# Altium integrated library NSC ADC.IntLib: 208 symbols (part 6 of 7)
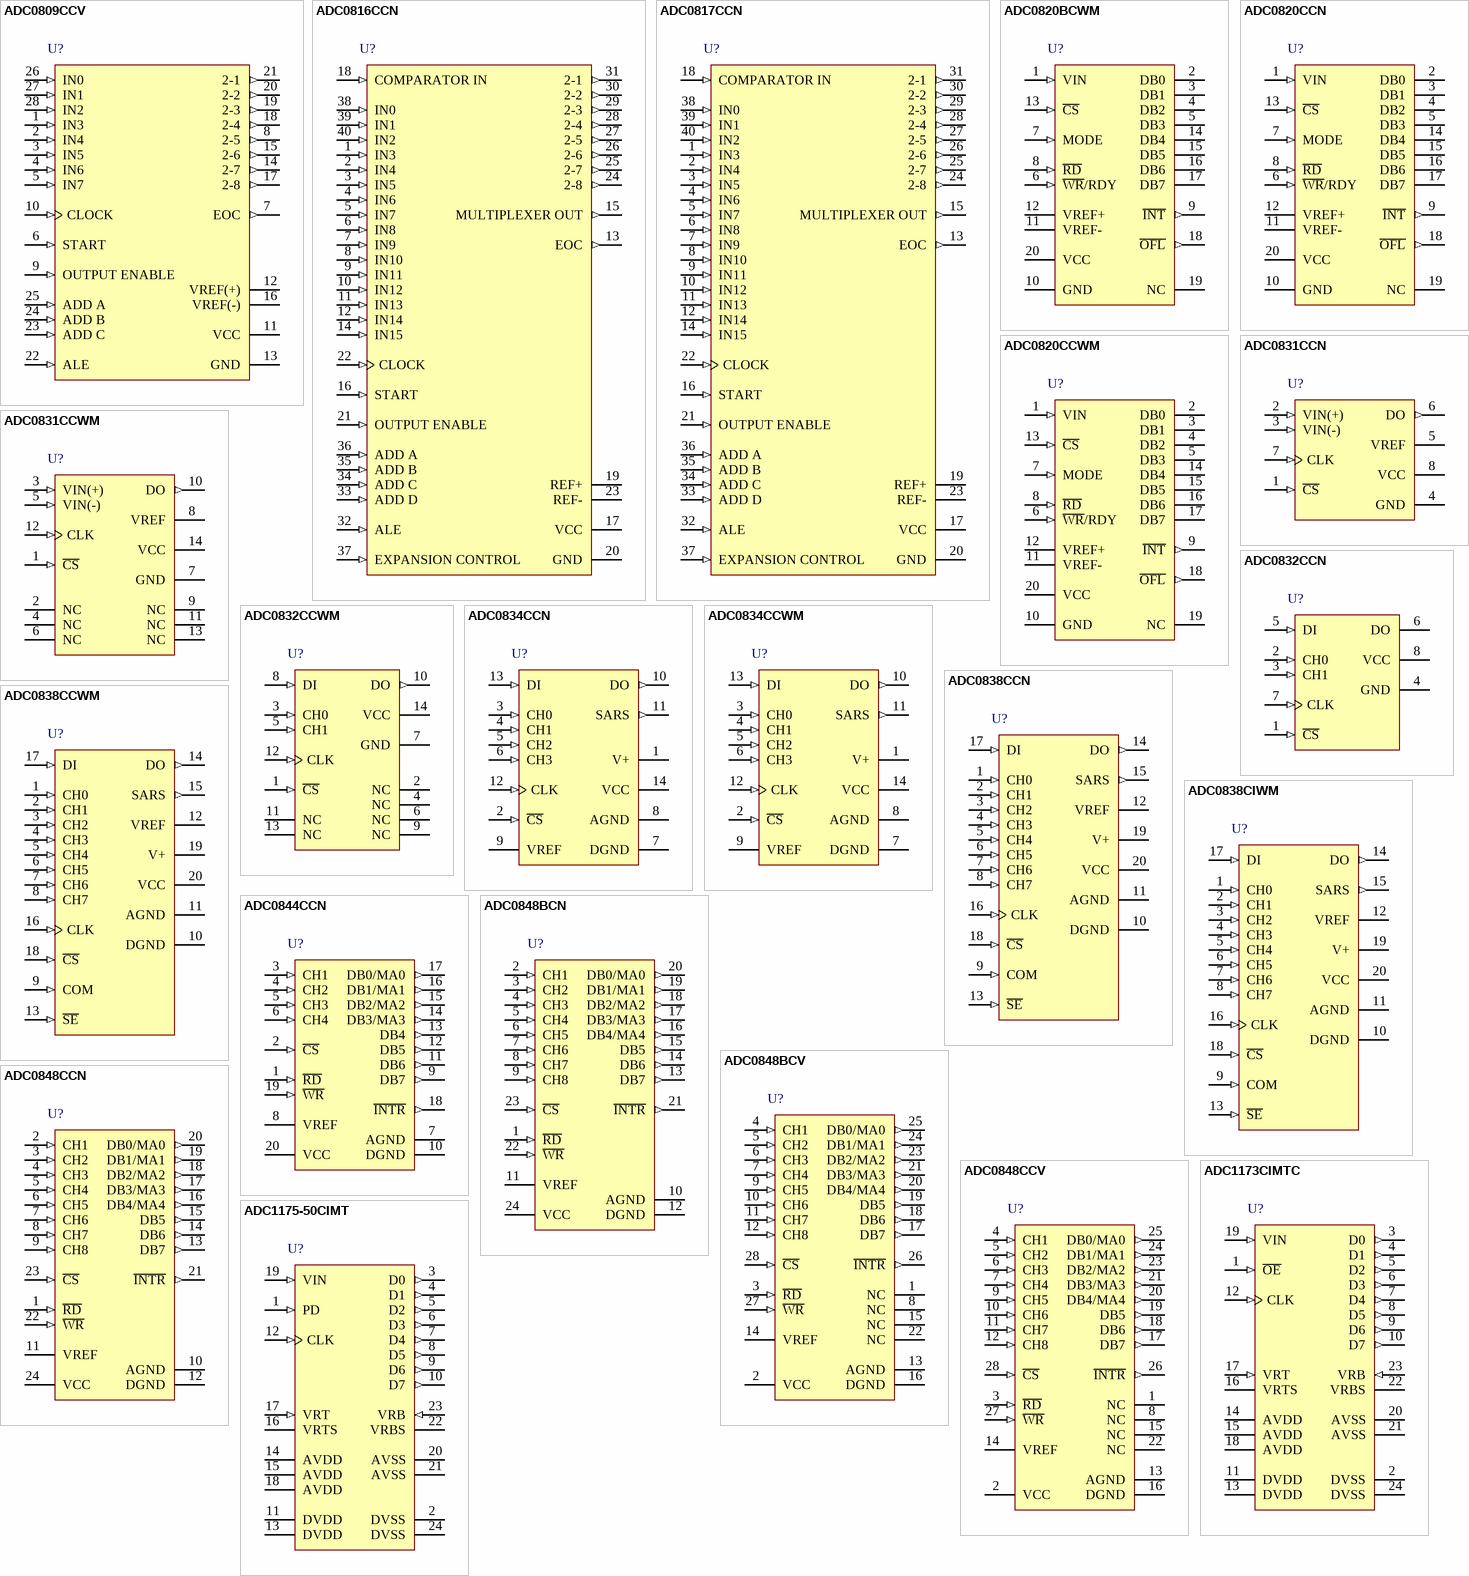
[diagram p22: symbols ADC0809CCV to ADC1175-50CIMT]

## ADC0848CCV
designator U?
8-Bit Microprocessor Compatible A/D Converter with Multiplexer Option; PartNumber: ADC0848CCV; Manufacturer: National Semiconductor; CompType: ADC IC; PackageTopMarking: NSUZXYYTT*ADC0848*CCV; PowerWise: N; Published: 4-Dec-2008; DatasheetVersion: Dec-2008; PackageVersion: revK, Dec-1993; PackageReference: V28A; Publisher: Altium Limited; PackageDescription: Plastic Chip Carrier, Sq., .050in Pitch, 28 Lead; RoHS: O; PinCount: 28; DigiKeyPartNumber: ADC0848CCV-ND; Code_IPC: PLCC-28; ComponentLink1Description: ADC0844 Datasheet; ComponentLink1URL: http://www.national.com/ds/AD/ADC0844.pdf; ComponentLink2Description: ADC0848 Web Page; ComponentLink2URL: http://www.national.com/mpf/DC/ADC0848.html; ComponentLink3Description: V28A Package Page; ComponentLink3URL: http://www.national.com/packaging/folders/v28a.html
footprint V28A_N (Leaded Chip Carrier, 28-Leads, Body 11.5x11.5mm, Pitch 1.27mm, IPC Medium Density)
footprint V28A_L (Leaded Chip Carrier, 28-Leads, Body 11.5x11.5mm, Pitch 1.27mm, IPC High Density)
footprint V28A_M (Leaded Chip Carrier, 28-Leads, Body 11.5x11.5mm, Pitch 1.27mm, IPC Low Density)
pins: 1 NC, 2 VCC (power), 3 ~{RD} (in), 4 CH1 (in), 5 CH2 (in), 6 CH3 (in), 7 CH4 (in), 8 NC, 9 CH5 (in), 10 CH6 (in), 11 CH7 (in), 12 CH8 (in), 13 AGND (power), 14 VREF (power), 15 NC, 16 DGND (power), 17 DB7 (out), 18 DB6 (out), 19 DB5 (out), 20 DB4/MA4 (out), 21 DB3/MA3 (out), 22 NC, 23 DB2/MA2 (out), 24 DB1/MA1 (out), 25 DB0/MA0 (out), 26 ~{INTR} (out), 27 ~{WR} (in), 28 ~{CS} (in)

## ADC1173CIMTC
designator U?
8-Bit, 3-Volt, 15MSPS, 33mW A/D Converter; PartNumber: ADC1173CIMTC; Manufacturer: National Semiconductor; CompType: ADC IC; PackageTopMarking: NSUZXYTT*ADC1173*CIMTC; PowerWise: N; Published: 4-Dec-2008; DatasheetVersion: Jun-1998; PackageVersion: revE, Mar-2003; PackageReference: MTC24; Publisher: Altium Limited; PackageDescription: Molded TSSOP, Jedec, 7.8 x 4.4 x 0.9mm Body, 24 Lead, 0.65mm Pitch; RoHS: O; PinCount: 24; DigiKeyPartNumber: ADC1173CIMTC-ND; Code_JEDEC: MO-153-AD; ComponentLink1Description: ADC1173 Datasheet; ComponentLink1URL: http://www.national.com/ds/AD/ADC1173.pdf; ComponentLink2Description: ADC1173 Web Page; ComponentLink2URL: http://www.national.com/pf/AD/ADC1173.html; ComponentLink3Description: MTC24 Package Page; ComponentLink3URL: http://www.national.com/packaging/folders/mtc24.html
footprint MTC24_N (TSOP, 24-Leads, Body 7.8x4.4mm, Pitch 0.65mm, IPC Medium Density)
footprint MTC24_L (TSOP, 24-Leads, Body 7.8x4.4mm, Pitch 0.65mm, IPC High Density)
footprint MTC24_M (TSOP, 24-Leads, Body 7.8x4.4mm, Pitch 0.65mm, IPC Low Density)
pins: 1 ~{OE} (in), 2 DVSS (power), 3 D0 (out), 4 D1 (out), 5 D2 (out), 6 D3 (out), 7 D4 (out), 8 D5 (out), 9 D6 (out), 10 D7 (out), 11 DVDD (power), 12 CLK (in), 13 DVDD (power), 14 AVDD (power), 15 AVDD (power), 16 VRTS, 17 VRT (in), 18 AVDD (power), 19 VIN (in), 20 AVSS (power), 21 AVSS (power), 22 VRBS, 23 VRB (in), 24 DVSS (power)

## ADC1175-50CIMT
designator U?
8-Bit, 50MSPS, 125mW A/D Converter; PartNumber: ADC1175-50CIMT; Manufacturer: National Semiconductor; CompType: ADC IC; PackageTopMarking: NSUZXYTT*ADC1175-50*CIMT; Published: 4-Dec-2008; DatasheetVersion: Nov-1998; PackageVersion: revE, Mar-2003; PackageReference: MTC24; Publisher: Altium Limited; PackageDescription: Molded TSSOP, Jedec, 7.8 x 4.4 x 0.9mm Body, 24 Lead, 0.65mm Pitch; RoHS: Y; PinCount: 24; DigiKeyPartNumber: ADC1175-50CIMT-ND; Code_JEDEC: MO-153-AD; ComponentLink1Description: ADC1175-50 Datasheet; ComponentLink1URL: http://www.national.com/ds/AD/ADC1175-50.pdf; ComponentLink2Description: ADC1175-50 Web Page; ComponentLink2URL: http://www.national.com/pf/AD/ADC1175-50.html; ComponentLink3Description: MTC24 Package Page; ComponentLink3URL: http://www.national.com/packaging/folders/mtc24.html
footprint MTC24_N (TSOP, 24-Leads, Body 7.8x4.4mm, Pitch 0.65mm, IPC Medium Density)
footprint MTC24_L (TSOP, 24-Leads, Body 7.8x4.4mm, Pitch 0.65mm, IPC High Density)
footprint MTC24_M (TSOP, 24-Leads, Body 7.8x4.4mm, Pitch 0.65mm, IPC Low Density)
pins: 1 PD (in), 2 DVSS (power), 3 D0 (out), 4 D1 (out), 5 D2 (out), 6 D3 (out), 7 D4 (out), 8 D5 (out), 9 D6 (out), 10 D7 (out), 11 DVDD (power), 12 CLK (in), 13 DVDD (power), 14 AVDD (power), 15 AVDD (power), 16 VRTS (power), 17 VRT (in), 18 AVDD (power), 19 VIN (in), 20 AVSS (power), 21 AVSS (power), 22 VRBS (power), 23 VRB (in), 24 DVSS (power)

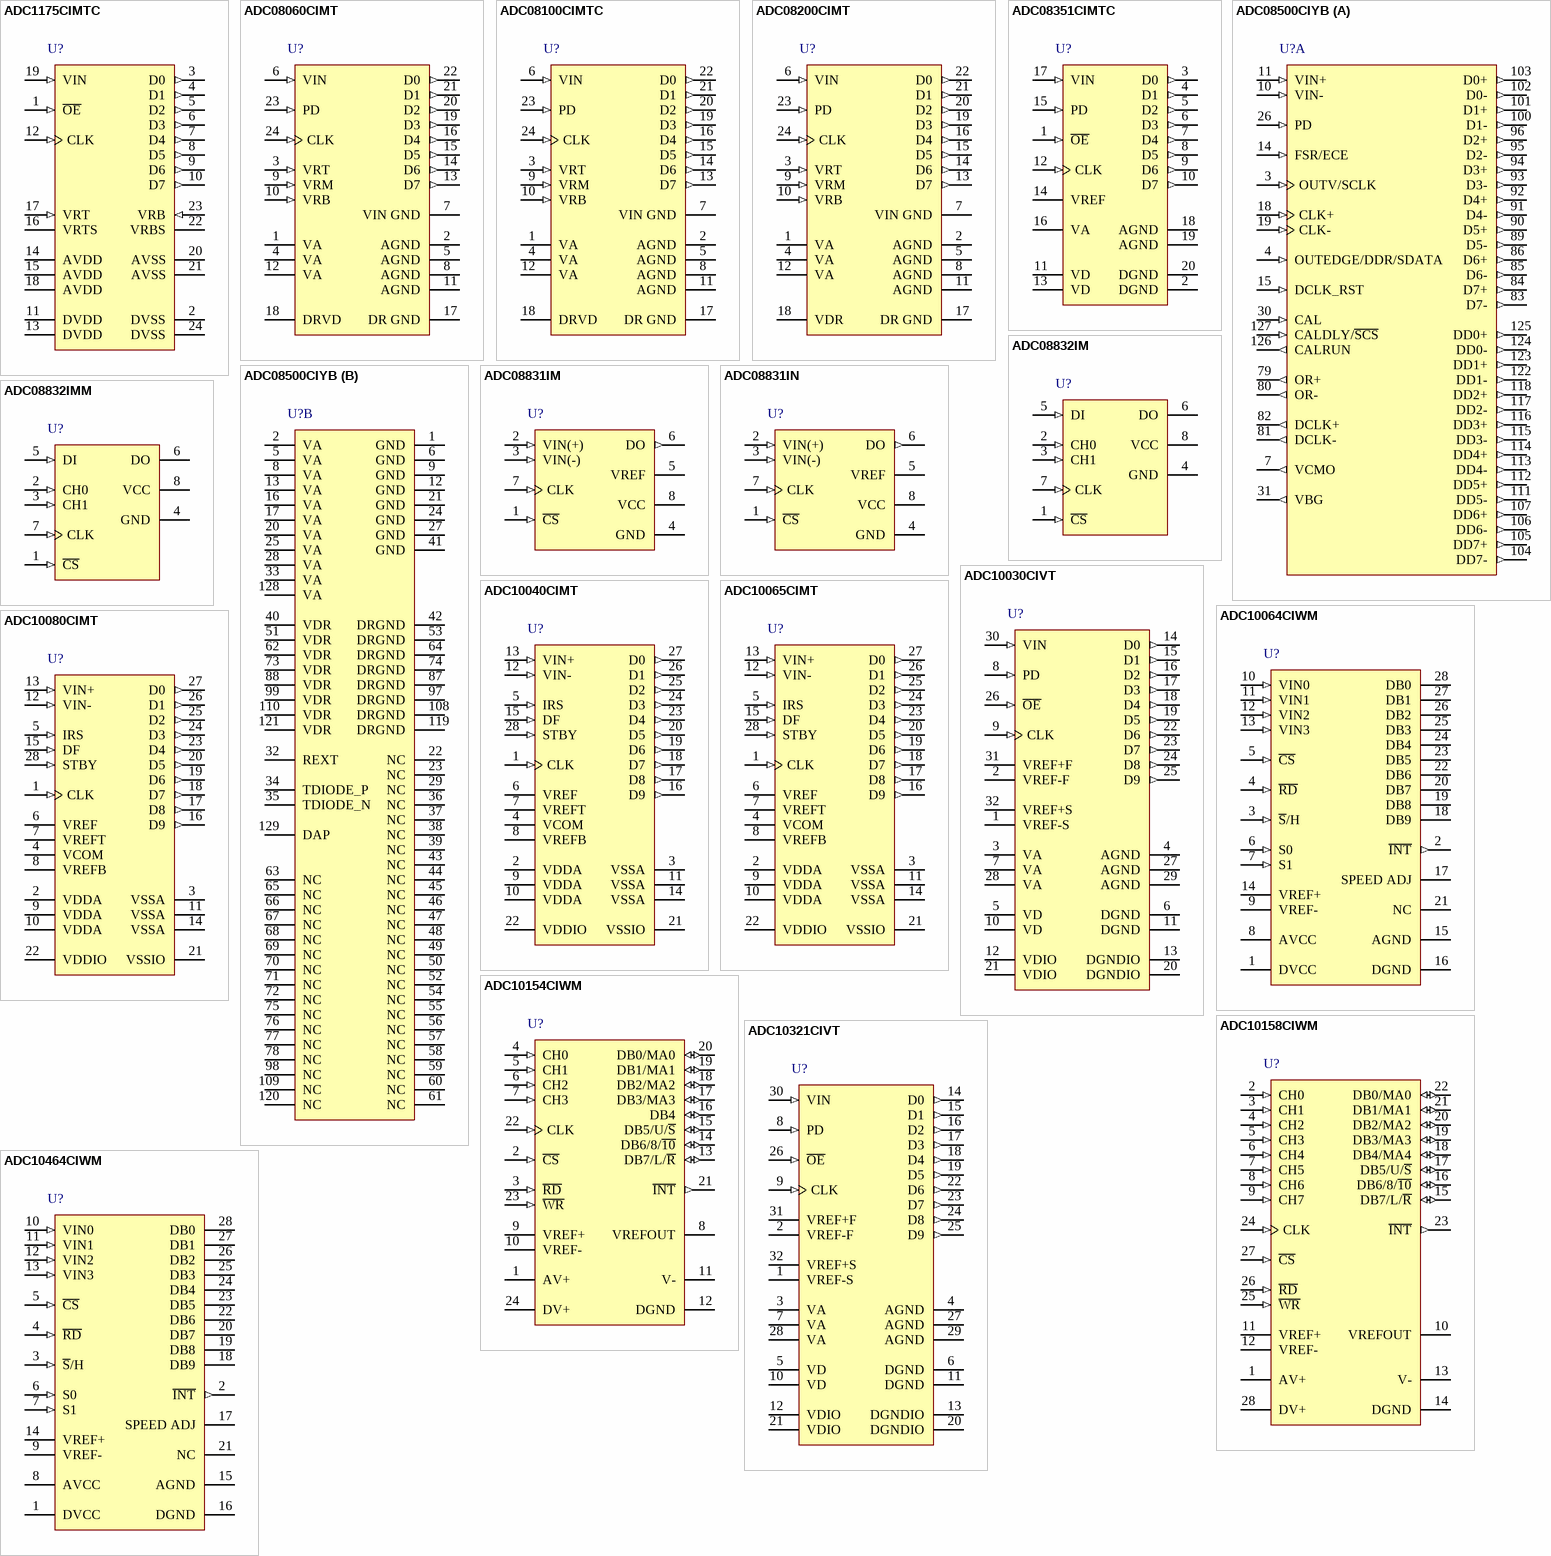
[diagram p12: symbols ADC1175CIMTC to ADC10464CIWM]

## ADC1175CIMTC
designator U?
8-Bit, 20MHz, 60mW A/D Converter; PartNumber: ADC1175CIMTC; Manufacturer: National Semiconductor; CompType: ADC IC; PackageTopMarking: NSUZXYTT*ADC1175*CIMTC; PowerWise: N; Published: 4-Dec-2008; DatasheetVersion: Feb-1998; PackageVersion: revE, Mar-2003; PackageReference: MTC24; Publisher: Altium Limited; PackageDescription: Molded TSSOP, Jedec, 7.8 x 4.4 x 0.9mm Body, 24 Lead, 0.65mm Pitch; RoHS: O; PinCount: 24; DigiKeyPartNumber: ADC1175CIMTC-ND; Code_JEDEC: MO-153-AD; ComponentLink1Description: ADC1175 Datasheet; ComponentLink1URL: http://www.national.com/ds/AD/ADC1175.pdf; ComponentLink2Description: ADC1175 Web Page; ComponentLink2URL: http://www.national.com/pf/AD/ADC1175.html; ComponentLink3Description: MTC24 Package Page; ComponentLink3URL: http://www.national.com/packaging/folders/mtc24.html
footprint MTC24_N (TSOP, 24-Leads, Body 7.8x4.4mm, Pitch 0.65mm, IPC Medium Density)
footprint MTC24_L (TSOP, 24-Leads, Body 7.8x4.4mm, Pitch 0.65mm, IPC High Density)
footprint MTC24_M (TSOP, 24-Leads, Body 7.8x4.4mm, Pitch 0.65mm, IPC Low Density)
pins: 1 ~{OE} (in), 2 DVSS (power), 3 D0 (out), 4 D1 (out), 5 D2 (out), 6 D3 (out), 7 D4 (out), 8 D5 (out), 9 D6 (out), 10 D7 (out), 11 DVDD (power), 12 CLK (in), 13 DVDD (power), 14 AVDD (power), 15 AVDD (power), 16 VRTS, 17 VRT (in), 18 AVDD (power), 19 VIN (in), 20 AVSS (power), 21 AVSS (power), 22 VRBS, 23 VRB (in), 24 DVSS (power)

## ADC08060CIMT
designator U?
8-Bit, 20 MSPS to 60 MSPS, 1.3 mW/MSPS A/D Converter with Internal Sample-and-Hold; PartNumber: ADC08060CIMT; Manufacturer: National Semiconductor; CompType: ADC IC; PackageTopMarking: NSUZXYTT*ADC08060*CIMT; PowerWise: N; Published: 4-Dec-2008; DatasheetVersion: Oct-2000; PackageVersion: revE, Mar-2003; PackageReference: MTC24; Publisher: Altium Limited; PackageDescription: Molded TSSOP, Jedec, 7.8 x 4.4 x 0.9mm Body, 24 Lead, 0.65mm Pitch; RoHS: Y; PinCount: 24; DigiKeyPartNumber: ADC08060CIMT-ND; Code_JEDEC: MO-153-AD; ComponentLink1Description: ADC08060 Datasheet; ComponentLink1URL: http://www.national.com/ds/AD/ADC08060.pdf; ComponentLink2Description: ADC08060 Web Page; ComponentLink2URL: http://www.national.com/pf/AD/ADC08060.html; ComponentLink3Description: MTC24 Package Page; ComponentLink3URL: http://www.national.com/packaging/folders/mtc24.html
footprint MTC24_N (TSOP, 24-Leads, Body 7.8x4.4mm, Pitch 0.65mm, IPC Medium Density)
footprint MTC24_L (TSOP, 24-Leads, Body 7.8x4.4mm, Pitch 0.65mm, IPC High Density)
footprint MTC24_M (TSOP, 24-Leads, Body 7.8x4.4mm, Pitch 0.65mm, IPC Low Density)
pins: 1 VA (power), 2 AGND (power), 3 VRT (in), 4 VA (power), 5 AGND (power), 6 VIN (in), 7 VIN GND (power), 8 AGND (power), 9 VRM (in), 10 VRB (in), 11 AGND (power), 12 VA (power), 13 D7 (out), 14 D6 (out), 15 D5 (out), 16 D4 (out), 17 DR GND (power), 18 DRVD (power), 19 D3 (out), 20 D2 (out), 21 D1 (out), 22 D0 (out), 23 PD (in), 24 CLK (in)

## ADC08100CIMTC
designator U?
8-Bit, 20 Msps to 100 Msps, 1.3 mW/Msps A/D Converter; PartNumber: ADC08100CIMTC; Manufacturer: National Semiconductor; CompType: ADC IC; PackageTopMarking: NSUZXYTT*ADC08100*CIMTC; PowerWise: N; Published: 4-Dec-2008; DatasheetVersion: Jun-2000; PackageVersion: revE, Mar-2003; PackageReference: MTC24; Publisher: Altium Limited; PackageDescription: Molded TSSOP, Jedec, 7.8 x 4.4 x 0.9mm Body, 24 Lead, 0.65mm Pitch; RoHS: O; PinCount: 24; DigiKeyPartNumber: ADC08100CIMTC-ND; Code_JEDEC: MO-153-AD; ComponentLink1Description: ADC08100 Datasheet; ComponentLink1URL: http://www.national.com/ds/AD/ADC08100.pdf; ComponentLink2Description: ADC08100 Web Page; ComponentLink2URL: http://www.national.com/pf/AD/ADC08100.html; ComponentLink3Description: MTC24 Package Page; ComponentLink3URL: http://www.national.com/packaging/folders/mtc24.html
footprint MTC24_N (TSOP, 24-Leads, Body 7.8x4.4mm, Pitch 0.65mm, IPC Medium Density)
footprint MTC24_L (TSOP, 24-Leads, Body 7.8x4.4mm, Pitch 0.65mm, IPC High Density)
footprint MTC24_M (TSOP, 24-Leads, Body 7.8x4.4mm, Pitch 0.65mm, IPC Low Density)
pins: 1 VA (power), 2 AGND (power), 3 VRT (in), 4 VA (power), 5 AGND (power), 6 VIN (in), 7 VIN GND (power), 8 AGND (power), 9 VRM (in), 10 VRB (in), 11 AGND (power), 12 VA (power), 13 D7 (out), 14 D6 (out), 15 D5 (out), 16 D4 (out), 17 DR GND (power), 18 DRVD (power), 19 D3 (out), 20 D2 (out), 21 D1 (out), 22 D0 (out), 23 PD (in), 24 CLK (in)

## ADC08200CIMT
designator U?
8-Bit, 20 Msps to 200 Msps, Low Power A/D Converter with Internal Sample-and-Hold; PartNumber: ADC08200CIMT; Manufacturer: National Semiconductor; CompType: ADC IC; PackageTopMarking: NSUZXYTT*ADC08200*CIMT; PowerWise: Y; Published: 4-Dec-2008; DatasheetVersion: Apr-2001; PackageVersion: revE, Mar-2003; PackageReference: MTC24; Publisher: Altium Limited; PackageDescription: Molded TSSOP, Jedec, 7.8 x 4.4 x 0.9mm Body, 24 Lead, 0.65mm Pitch; RoHS: O; PinCount: 24; DigiKeyPartNumber: ADC08200CIMT-ND; Code_JEDEC: MO-153-AD; ComponentLink1Description: ADC08200 Datasheet; ComponentLink1URL: http://www.national.com/ds/AD/ADC08200.pdf; ComponentLink2Description: ADC08200 Web Page; ComponentLink2URL: http://www.national.com/pf/AD/ADC08200.html; ComponentLink3Description: MTC24 Package Page; ComponentLink3URL: http://www.national.com/packaging/folders/mtc24.html
footprint MTC24_N (TSOP, 24-Leads, Body 7.8x4.4mm, Pitch 0.65mm, IPC Medium Density)
footprint MTC24_L (TSOP, 24-Leads, Body 7.8x4.4mm, Pitch 0.65mm, IPC High Density)
footprint MTC24_M (TSOP, 24-Leads, Body 7.8x4.4mm, Pitch 0.65mm, IPC Low Density)
pins: 1 VA (power), 2 AGND (power), 3 VRT (in), 4 VA (power), 5 AGND (power), 6 VIN (in), 7 VIN GND (power), 8 AGND (power), 9 VRM (in), 10 VRB (in), 11 AGND (power), 12 VA (power), 13 D7 (out), 14 D6 (out), 15 D5 (out), 16 D4 (out), 17 DR GND (power), 18 VDR (power), 19 D3 (out), 20 D2 (out), 21 D1 (out), 22 D0 (out), 23 PD (in), 24 CLK (in)

## ADC08351CIMTC
designator U?
8-Bit, 42 MSPS, 40 mW A/D Converter; PartNumber: ADC08351CIMTC; Manufacturer: National Semiconductor; CompType: ADC IC; PackageTopMarking: NSUZXYTT*ADC08351*CIMTC; Published: 4-Dec-2008; DatasheetVersion: Oct-1998; PackageVersion: revE, Mar-2003; PackageReference: MTC20; Publisher: Altium Limited; PackageDescription: Molded TSSOP, Jedec, 6.5 x 4.4 x 0.9mm Body, 20 Lead, 0.65mm Pitch; RoHS: Y; PinCount: 20; DigiKeyPartNumber: ADC08351CIMTC-ND; Code_JEDEC: MO-153-AC; ComponentLink1Description: ADC08351 Datasheet; ComponentLink1URL: http://www.national.com/ds/AD/ADC08351.pdf; ComponentLink2Description: ADC08351 Web Page; ComponentLink2URL: http://www.national.com/pf/AD/ADC08351.html; ComponentLink3Description: MTC20 Package Page; ComponentLink3URL: http://www.national.com/packaging/folders/mtc20.html
footprint MTC20_N (TSOP, 20-Leads, Body 6.5x4.4mm, Pitch 0.65mm, IPC Medium Density)
footprint MTC20_L (TSOP, 20-Leads, Body 6.5x4.4mm, Pitch 0.65mm, IPC High Density)
footprint MTC20_M (TSOP, 20-Leads, Body 6.5x4.4mm, Pitch 0.65mm, IPC Low Density)
pins: 1 ~{OE} (in), 2 DGND (power), 3 D0 (out), 4 D1 (out), 5 D2 (out), 6 D3 (out), 7 D4 (out), 8 D5 (out), 9 D6 (out), 10 D7 (out), 11 VD (power), 12 CLK (in), 13 VD (power), 14 VREF (power), 15 PD (in), 16 VA (power), 17 VIN (in), 18 AGND (power), 19 AGND (power), 20 DGND (power)

## ADC08500CIYB
designator U?
High Performance, Low Power, Dual 8-Bit, 500 MSPS A/D Converter; PartNumber: ADC08500CIYB; Manufacturer: National Semiconductor; CompType: ADC IC; PackageTopMarking: NSUZXYYTTE#*ADC08500CIYB; PowerWise: Y; Published: 4-Dec-2008; DatasheetVersion: Jun-2007; PackageVersion: revB, Aug-2006; PackageReference: VNX128A; Publisher: Altium Limited; PackageDescription: LQFP, 20 x 20 x 1.4mm, 128 Lead, 0.5mm Pitch, Exposed Pad; RoHS: O; PinCount: 128; DigiKeyPartNumber: ADC08500CIYB-ND; Code_JEDEC: MS-026-BFB; ComponentLink1Description: ADC08500 Datasheet; ComponentLink1URL: http://www.national.com/ds/AD/ADC08500.pdf; ComponentLink2Description: ADC08500 Web Page; ComponentLink2URL: http://www.national.com/pf/AD/ADC08500.html; ComponentLink3Description: VNX128A Package Page; ComponentLink3URL: http://www.national.com/packaging/folders/vnx128a.html
footprint VNX128A_N (Thin QFP, 128-Leads, Body 20x20mm, Pitch 0.5mm, Exposed Pad, IPC Medium Density)
footprint VNX128A_L (Thin QFP, 128-Leads, Body 20x20mm, Pitch 0.5mm, Exposed Pad, IPC High Density)
footprint VNX128A_M (Thin QFP, 128-Leads, Body 20x20mm, Pitch 0.5mm, Exposed Pad, IPC Low Density)
part A pins: 3 OUTV/SCLK (in), 4 OUTEDGE/DDR/SDATA (in), 7 VCMO (out), 10 VIN- (in), 11 VIN+ (in), 14 FSR/ECE (in), 15 DCLK_RST (in), 18 CLK+ (in), 19 CLK- (in), 26 PD (in), 30 CAL (in), 31 VBG (out), 79 OR+ (out), 80 OR- (out), 81 DCLK- (out), 82 DCLK+ (out), 83 D7- (out), 84 D7+ (out), 85 D6- (out), 86 D6+ (out), 89 D5- (out), 90 D5+ (out), 91 D4- (out), 92 D4+ (out), 93 D3- (out), 94 D3+ (out), 95 D2- (out), 96 D2+ (out), 100 D1- (out), 101 D1+ (out), 102 D0- (out), 103 D0+ (out), 104 DD7- (out), 105 DD7+ (out), 106 DD6- (out), 107 DD6+ (out), 111 DD5- (out), 112 DD5+ (out), 113 DD4- (out), 114 DD4+ (out), 115 DD3- (out), 116 DD3+ (out), 117 DD2- (out), 118 DD2+ (out), 122 DD1- (out), 123 DD1+ (out), 124 DD0- (out), 125 DD0+ (out), 126 CALRUN (out), 127 CALDLY/~{SCS} (in)
part B pins: 1 GND (power), 2 VA (power), 5 VA (power), 6 GND (power), 8 VA (power), 9 GND (power), 12 GND (power), 13 VA (power), 16 VA (power), 17 VA (power), 20 VA (power), 21 GND (power), 22 NC, 23 NC, 24 GND (power), 25 VA (power), 27 GND (power), 28 VA (power), 29 NC, 32 REXT, 33 VA (power), 34 TDIODE_P, 35 TDIODE_N, 36 NC, 37 NC, 38 NC, 39 NC, 40 VDR (power), 41 GND (power), 42 DRGND (power), 43 NC, 44 NC, 45 NC, 46 NC, 47 NC, 48 NC, 49 NC, 50 NC, 51 VDR (power), 52 NC, 53 DRGND (power), 54 NC, 55 NC, 56 NC, 57 NC, 58 NC, 59 NC, 60 NC, 61 NC, 62 VDR (power), 63 NC, 64 DRGND (power), 65 NC, 66 NC, 67 NC, 68 NC, 69 NC, 70 NC, 71 NC, 72 NC, 73 VDR (power), 74 DRGND (power), 75 NC, 76 NC, 77 NC, 78 NC, 87 DRGND (power), 88 VDR (power), 97 DRGND (power), 98 NC, 99 VDR (power), 108 DRGND (power), 109 NC, 110 VDR (power), 119 DRGND (power), 120 NC, 121 VDR (power), 128 VA (power), 129 DAP (power)

## ADC08831IM
designator U?
8-Bit Serial I/O CMOS A/D Converters with Multiplexer and Sample/Hold Function; PartNumber: ADC08831IM; Manufacturer: National Semiconductor; CompType: ADC IC; PackageTopMarking: NSZXTT*08831*IM; PowerWise: N; Published: 4-Dec-2008; DatasheetVersion: Dec-1998; PackageVersion: revL, Sep-2006; PackageReference: M08A; Publisher: Altium Limited; PackageDescription: SOIC Narrow, 4.9 x 3.9 x 1.45mm, 8 Lead, 1.27mm Pitch; RoHS: Y; PinCount: 8; DigiKeyPartNumber: ADC08831IM-ND; Code_JEDEC: MS-012-AA; Code_IPC: SOIC127P600-8; ComponentLink1Description: ADC08831 Datasheet; ComponentLink1URL: http://www.national.com/ds/AD/ADC08831.pdf; ComponentLink2Description: ADC08831 Web Page; ComponentLink2URL: http://www.national.com/pf/AD/ADC08831.html; ComponentLink3Description: M08A Package Page; ComponentLink3URL: http://www.national.com/packaging/folders/m08a.html
footprint M08A_N (SOIC, 8-Leads, Body 4.9x3.9mm, Pitch 1.27mm, IPC Medium Density)
footprint M08A_L (SOIC, 8-Leads, Body 4.9x3.9mm, Pitch 1.27mm, IPC High Density)
footprint M08A_M (SOIC, 8-Leads, Body 4.9x3.9mm, Pitch 1.27mm, IPC Low Density)
pins: 1 ~{CS} (in), 2 VIN(+) (in), 3 VIN(-) (in), 4 GND (power), 5 VREF (power), 6 DO (out), 7 CLK (in), 8 VCC (power)

## ADC08831IN
designator U?
8-Bit Serial I/O CMOS A/D Converters with Multiplexer and Sample/Hold Function; PartNumber: ADC08831IN; Manufacturer: National Semiconductor; CompType: ADC IC; PackageTopMarking: NSUZXYTT*ADC08831*IN; Published: 4-Dec-2008; DatasheetVersion: Dec-1998; PackageVersion: revG, May-2006; PackageReference: N08E; Publisher: Altium Limited; PackageDescription: MDIP, .365 x .250 x .130in, 8 Lead, .100in Pitch; RoHS: Y; PinCount: 8; DigiKeyPartNumber: ADC08831IN-ND; Code_JEDEC: MS-001-BA; ComponentLink1Description: ADC08831 Datasheet; ComponentLink1URL: http://www.national.com/ds/AD/ADC08831.pdf; ComponentLink2Description: ADC08831 Web Page; ComponentLink2URL: http://www.national.com/pf/AD/ADC08831.html; ComponentLink3Description: N08E Package Page; ComponentLink3URL: http://www.national.com/packaging/folders/n08e.html
footprint N08E (DIP, 8-Leads, Row Spacing 7.62mm, Pitch 2.54mm, Body 9.91x6.35mm)
pins: 1 ~{CS} (in), 2 VIN(+) (in), 3 VIN(-) (in), 4 GND (power), 5 VREF (power), 6 DO (out), 7 CLK (in), 8 VCC (power)

## ADC08832IM
designator U?
8-Bit Serial I/O CMOS A/D Converters with Multiplexer and Sample/Hold Function; PartNumber: ADC08832IM; Manufacturer: National Semiconductor; CompType: ADC IC; PackageTopMarking: NSZXTT*08832*IM; PowerWise: N; Published: 4-Dec-2008; DatasheetVersion: Dec-1998; PackageVersion: revL, Sep-2006; PackageReference: M08A; Publisher: Altium Limited; PackageDescription: SOIC Narrow, 4.9 x 3.9 x 1.45mm, 8 Lead, 1.27mm Pitch; RoHS: Y; PinCount: 8; DigiKeyPartNumber: ADC08832IM-ND; Code_JEDEC: MS-012-AA; Code_IPC: SOIC127P600-8; ComponentLink1Description: ADC08832 Datasheet; ComponentLink1URL: http://www.national.com/ds/AD/ADC08832.pdf; ComponentLink2Description: ADC08832 Web Page; ComponentLink2URL: http://www.national.com/pf/AD/ADC08832.html; ComponentLink3Description: M08A Package Page; ComponentLink3URL: http://www.national.com/packaging/folders/m08a.html
footprint M08A_N (SOIC, 8-Leads, Body 4.9x3.9mm, Pitch 1.27mm, IPC Medium Density)
footprint M08A_L (SOIC, 8-Leads, Body 4.9x3.9mm, Pitch 1.27mm, IPC High Density)
footprint M08A_M (SOIC, 8-Leads, Body 4.9x3.9mm, Pitch 1.27mm, IPC Low Density)
pins: 1 ~{CS} (in), 2 CH0 (in), 3 CH1 (in), 4 GND (power), 5 DI (in), 6 DO (hiz), 7 CLK (in), 8 VCC (power)

## ADC08832IMM
designator U?
8-Bit Serial I/O CMOS A/D Converters with Multiplexer and Sample/Hold Function; PartNumber: ADC08832IMM; Manufacturer: National Semiconductor; CompType: ADC IC; PackageTopMarking: ZXTT*8832; PowerWise: N; Published: 4-Dec-2008; DatasheetVersion: Dec-1998; PackageVersion: revF, Apr-2008; PackageReference: MUA08A; Publisher: Altium Limited; PackageDescription: MINI SOIC, .118 x .118 x .034in, 8 Lead, .0256in Pitch; RoHS: O; PinCount: 8; DigiKeyPartNumber: ADC08832IMMCT-ND; Code_JEDEC: MO-187-AA; ComponentLink1Description: ADC08832 Datasheet; ComponentLink1URL: http://www.national.com/ds/AD/ADC08832.pdf; ComponentLink2Description: ADC08832 Web Page; ComponentLink2URL: http://www.national.com/pf/AD/ADC08832.html; ComponentLink3Description: MUA08A Package Page; ComponentLink3URL: http://www.national.com/packaging/folders/mua08a.html
footprint MUA08A_N (TSOP, 8-Leads, Body 3x3mm, Pitch 0.65mm, IPC Medium Density)
footprint MUA08A_L (TSOP, 8-Leads, Body 3x3mm, Pitch 0.65mm, IPC High Density)
footprint MUA08A_M (TSOP, 8-Leads, Body 3x3mm, Pitch 0.65mm, IPC Low Density)
pins: 1 ~{CS} (in), 2 CH0 (in), 3 CH1 (in), 4 GND (power), 5 DI (in), 6 DO (hiz), 7 CLK (in), 8 VCC (power)

## ADC10030CIVT
designator U?
10-Bit, 30 MSPS, 125 mW A/D Converter with Internal Sample and Hold; PartNumber: ADC10030CIVT; Manufacturer: National Semiconductor; CompType: ADC IC; PackageTopMarking: NS2ZXYTT*ADC10030*CIVT; Published: 4-Dec-2008; DatasheetVersion: May-1999; PackageVersion: revE, Dec-1999; PackageReference: VBE32A; Publisher: Altium Limited; PackageDescription: LQFP, JEDEC, Metric, 7 x 7 x 1.4mm, 32 Lead; RoHS: Y; PinCount: 32; DigiKeyPartNumber: ADC10030CIVT-ND; ComponentLink1Description: ADC10030 Datasheet; ComponentLink1URL: http://www.national.com/ds/AD/ADC10030.pdf; ComponentLink2Description: ADC10030 Web Page; ComponentLink2URL: http://www.national.com/pf/AD/ADC10030.html; ComponentLink3Description: VBE32A Package Page; ComponentLink3URL: http://www.national.com/packaging/folders/vbe32a.html
footprint VBE32A_N (Thin QFP, 32-Leads, Body 7x7mm, Pitch 0.8mm, IPC Medium Density)
footprint VBE32A_L (Thin QFP, 32-Leads, Body 7x7mm, Pitch 0.8mm, IPC High Density)
footprint VBE32A_M (Thin QFP, 32-Leads, Body 7x7mm, Pitch 0.8mm, IPC Low Density)
pins: 1 VREF-S (power), 2 VREF-F (power), 3 VA (power), 4 AGND (power), 5 VD (power), 6 DGND (power), 7 VA (power), 8 PD (in), 9 CLK (in), 10 VD (power), 11 DGND (power), 12 VDIO (power), 13 DGNDIO (power), 14 D0 (out), 15 D1 (out), 16 D2 (out), 17 D3 (out), 18 D4 (out), 19 D5 (out), 20 DGNDIO (power), 21 VDIO (power), 22 D6 (out), 23 D7 (out), 24 D8 (out), 25 D9 (out), 26 ~{OE} (in), 27 AGND (power), 28 VA (power), 29 AGND (power), 30 VIN (in), 31 VREF+F (power), 32 VREF+S (power)

## ADC10040CIMT
designator U?
10-Bit, 40 MSPS, 3V, 55.5 mW A/D Converter; PartNumber: ADC10040CIMT; Manufacturer: National Semiconductor; CompType: ADC IC; PackageTopMarking: NSUZXYTT*ADC10040*CIMT; PowerWise: Y; Published: 4-Dec-2008; DatasheetVersion: Jul-2003; PackageVersion: revD, Jan-2005; PackageReference: MTC28; Publisher: Altium Limited; PackageDescription: Molded TSSOP, Jedec, 9.7 x 4.4 x 0.9mm Body, 28 Lead, 0.65mm Pitch; RoHS: Y; PinCount: 28; DigiKeyPartNumber: ADC10040CIMT-ND; Code_JEDEC: MO-153-AE; ComponentLink1Description: ADC10040 Datasheet; ComponentLink1URL: http://www.national.com/ds/AD/ADC10040.pdf; ComponentLink2Description: ADC10040 Web Page; ComponentLink2URL: http://www.national.com/pf/AD/ADC10040.html; ComponentLink3Description: MTC28 Package Page; ComponentLink3URL: http://www.national.com/packaging/folders/mtc28.html
footprint MTC28_N (TSOP, 28-Leads, Body 9.7x4.4mm, Pitch 0.65mm, IPC Medium Density)
footprint MTC28_L (TSOP, 28-Leads, Body 9.7x4.4mm, Pitch 0.65mm, IPC High Density)
footprint MTC28_M (TSOP, 28-Leads, Body 9.7x4.4mm, Pitch 0.65mm, IPC Low Density)
pins: 1 CLK (in), 2 VDDA (power), 3 VSSA (power), 4 VCOM (power), 5 IRS (in), 6 VREF (power), 7 VREFT (power), 8 VREFB (power), 9 VDDA (power), 10 VDDA (power), 11 VSSA (power), 12 VIN- (in), 13 VIN+ (in), 14 VSSA (power), 15 DF (in), 16 D9 (out), 17 D8 (out), 18 D7 (out), 19 D6 (out), 20 D5 (out), 21 VSSIO (power), 22 VDDIO (power), 23 D4 (out), 24 D3 (out), 25 D2 (out), 26 D1 (out), 27 D0 (out), 28 STBY (in)

## ADC10064CIWM
designator U?
10-Bit 600 ns A/D Converter with Input Multiplexer and Sample/Hold; PartNumber: ADC10064CIWM; Manufacturer: National Semiconductor; CompType: ADC IC; PackageTopMarking: NSUZXYTT*ADC10064*CIWM; PowerWise: N; Published: 4-Dec-2008; DatasheetVersion: Sep-1992; PackageVersion: revB, Nov-1997; PackageReference: M28B; Publisher: Altium Limited; PackageDescription: Molded Package, S.O., .300in Wide, 28 Lead; RoHS: O; PinCount: 28; DigiKeyPartNumber: ADC10064CIWM-ND; ComponentLink1Description: ADC10064 Datasheet; ComponentLink1URL: http://www.national.com/ds/AD/ADC10064.pdf; ComponentLink2Description: ADC10064 Web Page; ComponentLink2URL: http://www.national.com/pf/AD/ADC10064.html; ComponentLink3Description: M28B Package Page; ComponentLink3URL: http://www.national.com/packaging/folders/m28b.html
footprint M28B_N (SOIC, 28-Leads, Body 17.9x7.5mm, Pitch 1.27mm, IPC Medium Density)
footprint M28B_L (SOIC, 28-Leads, Body 17.9x7.5mm, Pitch 1.27mm, IPC High Density)
footprint M28B_M (SOIC, 28-Leads, Body 17.9x7.5mm, Pitch 1.27mm, IPC Low Density)
pins: 1 DVCC (power), 2 ~{INT} (out), 3 ~{S}/H (in), 4 ~{RD} (in), 5 ~{CS} (in), 6 S0 (in), 7 S1 (in), 8 AVCC (power), 9 VREF- (power), 10 VIN0 (in), 11 VIN1 (in), 12 VIN2 (in), 13 VIN3 (in), 14 VREF+ (power), 15 AGND (power), 16 DGND (power), 17 SPEED ADJ, 18 DB9 (hiz), 19 DB8 (hiz), 20 DB7 (hiz), 21 NC, 22 DB6 (hiz), 23 DB5 (hiz), 24 DB4 (hiz), 25 DB3 (hiz), 26 DB2 (hiz), 27 DB1 (hiz), 28 DB0 (hiz)

## ADC10065CIMT
designator U?
10-Bit 65 MSPS 3V A/D Converter; PartNumber: ADC10065CIMT; Manufacturer: National Semiconductor; CompType: ADC IC; PackageTopMarking: NSUZXYTT*ADC10065*CIMT; PowerWise: Y; Published: 4-Dec-2008; DatasheetVersion: Jul-2003; PackageVersion: revD, Jan-2005; PackageReference: MTC28; Publisher: Altium Limited; PackageDescription: Molded TSSOP, Jedec, 9.7 x 4.4 x 0.9mm Body, 28 Lead, 0.65mm Pitch; RoHS: O; PinCount: 28; DigiKeyPartNumber: ADC10065CIMT-ND; Code_JEDEC: MO-153-AE; ComponentLink1Description: ADC10065 Datasheet; ComponentLink1URL: http://www.national.com/ds/AD/ADC10065.pdf; ComponentLink2Description: ADC10065 Web Page; ComponentLink2URL: http://www.national.com/pf/AD/ADC10065.html; ComponentLink3Description: MTC28 Package Page; ComponentLink3URL: http://www.national.com/packaging/folders/mtc28.html
footprint MTC28_N (TSOP, 28-Leads, Body 9.7x4.4mm, Pitch 0.65mm, IPC Medium Density)
footprint MTC28_L (TSOP, 28-Leads, Body 9.7x4.4mm, Pitch 0.65mm, IPC High Density)
footprint MTC28_M (TSOP, 28-Leads, Body 9.7x4.4mm, Pitch 0.65mm, IPC Low Density)
pins: 1 CLK (in), 2 VDDA (power), 3 VSSA (power), 4 VCOM (power), 5 IRS (in), 6 VREF (power), 7 VREFT (power), 8 VREFB (power), 9 VDDA (power), 10 VDDA (power), 11 VSSA (power), 12 VIN- (in), 13 VIN+ (in), 14 VSSA (power), 15 DF (in), 16 D9 (out), 17 D8 (out), 18 D7 (out), 19 D6 (out), 20 D5 (out), 21 VSSIO (power), 22 VDDIO (power), 23 D4 (out), 24 D3 (out), 25 D2 (out), 26 D1 (out), 27 D0 (out), 28 STBY (in)

## ADC10080CIMT
designator U?
10-Bit, 80 MSPS, 3V, 78.6 mW A/D Converter; PartNumber: ADC10080CIMT; Manufacturer: National Semiconductor; CompType: ADC IC; PackageTopMarking: NSUZXYTT*ADC10080*CIMT; PowerWise: Y; Published: 4-Dec-2008; DatasheetVersion: Jul-2003; PackageVersion: revD, Jan-2005; PackageReference: MTC28; Publisher: Altium Limited; PackageDescription: Molded TSSOP, Jedec, 9.7 x 4.4 x 0.9mm Body, 28 Lead, 0.65mm Pitch; RoHS: O; PinCount: 28; DigiKeyPartNumber: ADC10080CIMT-ND; Code_JEDEC: MO-153-AE; ComponentLink1Description: ADC10080 Datasheet; ComponentLink1URL: http://www.national.com/ds/AD/ADC10080.pdf; ComponentLink2Description: ADC10080 Web Page; ComponentLink2URL: http://www.national.com/pf/AD/ADC10080.html; ComponentLink3Description: MTC28 Package Page; ComponentLink3URL: http://www.national.com/packaging/folders/mtc28.html
footprint MTC28_N (TSOP, 28-Leads, Body 9.7x4.4mm, Pitch 0.65mm, IPC Medium Density)
footprint MTC28_L (TSOP, 28-Leads, Body 9.7x4.4mm, Pitch 0.65mm, IPC High Density)
footprint MTC28_M (TSOP, 28-Leads, Body 9.7x4.4mm, Pitch 0.65mm, IPC Low Density)
pins: 1 CLK (in), 2 VDDA (power), 3 VSSA (power), 4 VCOM (power), 5 IRS (in), 6 VREF (power), 7 VREFT (power), 8 VREFB (power), 9 VDDA (power), 10 VDDA (power), 11 VSSA (power), 12 VIN- (in), 13 VIN+ (in), 14 VSSA (power), 15 DF (in), 16 D9 (out), 17 D8 (out), 18 D7 (out), 19 D6 (out), 20 D5 (out), 21 VSSIO (power), 22 VDDIO (power), 23 D4 (out), 24 D3 (out), 25 D2 (out), 26 D1 (out), 27 D0 (out), 28 STBY (in)

## ADC10154CIWM
designator U?
10-Bit Plus Sign 4 microseconds ADCs with 4- or 8-Channel MUX, Track/Hold and Reference; PartNumber: ADC10154CIWM; Manufacturer: National Semiconductor; CompType: ADC IC; PackageTopMarking: NSUZXYTT*ADC10154*CIWM; PowerWise: N; Published: 4-Dec-2008; DatasheetVersion: Sep-1992; PackageVersion: revF, Apr-1990; PackageReference: M24B; Publisher: Altium Limited; PackageDescription: Molded Package, S.O., .300in Wide, 24 Lead; RoHS: O; PinCount: 24; DigiKeyPartNumber: ADC10154CIWM-ND; ComponentLink1Description: ADC10154 Datasheet; ComponentLink1URL: http://www.national.com/ds/AD/ADC10154.pdf; ComponentLink2Description: ADC10154 Web Page; ComponentLink2URL: http://www.national.com/pf/AD/ADC10154.html; ComponentLink3Description: M24B Package Page; ComponentLink3URL: http://www.national.com/packaging/folders/m24b.html
footprint M24B_N (SOIC, 24-Leads, Body 15.4x7.5mm, Pitch 1.27mm, IPC Medium Density)
footprint M24B_L (SOIC, 24-Leads, Body 15.4x7.5mm, Pitch 1.27mm, IPC High Density)
footprint M24B_M (SOIC, 24-Leads, Body 15.4x7.5mm, Pitch 1.27mm, IPC Low Density)
pins: 1 AV+ (power), 2 ~{CS} (in), 3 ~{RD} (in), 4 CH0 (in), 5 CH1 (in), 6 CH2 (in), 7 CH3 (in), 8 VREFOUT (power), 9 VREF+ (power), 10 VREF- (power), 11 V- (power), 12 DGND (power), 13 DB7/L/~{R} (io), 14 DB6/8/~{10} (io), 15 DB5/U/~{S} (io), 16 DB4 (io), 17 DB3/MA3 (io), 18 DB2/MA2 (io), 19 DB1/MA1 (io), 20 DB0/MA0 (io), 21 ~{INT} (out), 22 CLK (in), 23 ~{WR} (in), 24 DV+ (power)

## ADC10158CIWM
designator U?
10-Bit Plus Sign 4 microseconds ADCs with 4- or 8-Channel MUX, Track/Hold and Reference; PartNumber: ADC10158CIWM; Manufacturer: National Semiconductor; CompType: ADC IC; PackageTopMarking: NSUZXYTT*ADC10158*CIWM; PowerWise: N; Published: 4-Dec-2008; DatasheetVersion: Sep-1992; PackageVersion: revB, Nov-1997; PackageReference: M28B; Publisher: Altium Limited; PackageDescription: Molded Package, S.O., .300in Wide, 28 Lead; RoHS: O; PinCount: 28; DigiKeyPartNumber: ADC10158CIWM-ND; ComponentLink1Description: ADC10158 Datasheet; ComponentLink1URL: http://www.national.com/ds/AD/ADC10158.pdf; ComponentLink2Description: ADC10158 Web Page; ComponentLink2URL: http://www.national.com/pf/AD/ADC10158.html; ComponentLink3Description: M28B Package Page; ComponentLink3URL: http://www.national.com/packaging/folders/m28b.html
footprint M28B_N (SOIC, 28-Leads, Body 17.9x7.5mm, Pitch 1.27mm, IPC Medium Density)
footprint M28B_L (SOIC, 28-Leads, Body 17.9x7.5mm, Pitch 1.27mm, IPC High Density)
footprint M28B_M (SOIC, 28-Leads, Body 17.9x7.5mm, Pitch 1.27mm, IPC Low Density)
pins: 1 AV+ (power), 2 CH0 (in), 3 CH1 (in), 4 CH2 (in), 5 CH3 (in), 6 CH4 (in), 7 CH5 (in), 8 CH6 (in), 9 CH7 (in), 10 VREFOUT (power), 11 VREF+ (power), 12 VREF- (power), 13 V- (power), 14 DGND (power), 15 DB7/L/~{R} (io), 16 DB6/8/~{10} (io), 17 DB5/U/~{S} (io), 18 DB4/MA4 (io), 19 DB3/MA3 (io), 20 DB2/MA2 (io), 21 DB1/MA1 (io), 22 DB0/MA0 (io), 23 ~{INT} (out), 24 CLK (in), 25 ~{WR} (in), 26 ~{RD} (in), 27 ~{CS} (in), 28 DV+ (power)

## ADC10321CIVT
designator U?
10-Bit, 20MSPS, 98mW A/D Converter with Internal Sample and Hold; PartNumber: ADC10321CIVT; Manufacturer: National Semiconductor; CompType: ADC IC; PackageTopMarking: NS2ZXYTT*ADC10321*CIVT; PowerWise: N; Published: 4-Dec-2008; DatasheetVersion: Dec-1998; PackageVersion: revE, Dec-1999; PackageReference: VBE32A; Publisher: Altium Limited; PackageDescription: LQFP, JEDEC, Metric, 7 x 7 x 1.4mm, 32 Lead; RoHS: O; PinCount: 32; DigiKeyPartNumber: ADC10321CIVT-ND; ComponentLink1Description: ADC10321 Datasheet; ComponentLink1URL: http://www.national.com/ds/AD/ADC10321.pdf; ComponentLink2Description: ADC10321 Web Page; ComponentLink2URL: http://www.national.com/pf/AD/ADC10321.html; ComponentLink3Description: VBE32A Package Page; ComponentLink3URL: http://www.national.com/packaging/folders/vbe32a.html
footprint VBE32A_N (Thin QFP, 32-Leads, Body 7x7mm, Pitch 0.8mm, IPC Medium Density)
footprint VBE32A_L (Thin QFP, 32-Leads, Body 7x7mm, Pitch 0.8mm, IPC High Density)
footprint VBE32A_M (Thin QFP, 32-Leads, Body 7x7mm, Pitch 0.8mm, IPC Low Density)
pins: 1 VREF-S (power), 2 VREF-F (power), 3 VA (power), 4 AGND (power), 5 VD (power), 6 DGND (power), 7 VA (power), 8 PD (in), 9 CLK (in), 10 VD (power), 11 DGND (power), 12 VDIO (power), 13 DGNDIO (power), 14 D0 (out), 15 D1 (out), 16 D2 (out), 17 D3 (out), 18 D4 (out), 19 D5 (out), 20 DGNDIO (power), 21 VDIO (power), 22 D6 (out), 23 D7 (out), 24 D8 (out), 25 D9 (out), 26 ~{OE} (in), 27 AGND (power), 28 VA (power), 29 AGND (power), 30 VIN (in), 31 VREF+F (power), 32 VREF+S (power)

## ADC10464CIWM
designator U?
10-Bit 600 ns A/D Converter with Input Multiplexer and Sample/Hold; PartNumber: ADC10464CIWM; Manufacturer: National Semiconductor; CompType: ADC IC; PackageTopMarking: NSUZXYTT*ADC10464*CIWM; PowerWise: N; Published: 4-Dec-2008; DatasheetVersion: Sep-1992; PackageVersion: revB, Nov-1997; PackageReference: M28B; Publisher: Altium Limited; PackageDescription: Molded Package, S.O., .300in Wide, 28 Lead; RoHS: O; PinCount: 28; DigiKeyPartNumber: ADC10464CIWM-ND; ComponentLink1Description: ADC10464 Datasheet; ComponentLink1URL: http://www.national.com/ds/AD/ADC10464.pdf; ComponentLink2Description: ADC10464 Web Page; ComponentLink2URL: http://www.national.com/pf/AD/ADC10464.html; ComponentLink3Description: M28B Package Page; ComponentLink3URL: http://www.national.com/packaging/folders/m28b.html
footprint M28B_N (SOIC, 28-Leads, Body 17.9x7.5mm, Pitch 1.27mm, IPC Medium Density)
footprint M28B_L (SOIC, 28-Leads, Body 17.9x7.5mm, Pitch 1.27mm, IPC High Density)
footprint M28B_M (SOIC, 28-Leads, Body 17.9x7.5mm, Pitch 1.27mm, IPC Low Density)
pins: 1 DVCC (power), 2 ~{INT} (out), 3 ~{S}/H (in), 4 ~{RD} (in), 5 ~{CS} (in), 6 S0 (in), 7 S1 (in), 8 AVCC (power), 9 VREF- (power), 10 VIN0 (in), 11 VIN1 (in), 12 VIN2 (in), 13 VIN3 (in), 14 VREF+ (power), 15 AGND (power), 16 DGND (power), 17 SPEED ADJ, 18 DB9 (hiz), 19 DB8 (hiz), 20 DB7 (hiz), 21 NC, 22 DB6 (hiz), 23 DB5 (hiz), 24 DB4 (hiz), 25 DB3 (hiz), 26 DB2 (hiz), 27 DB1 (hiz), 28 DB0 (hiz)

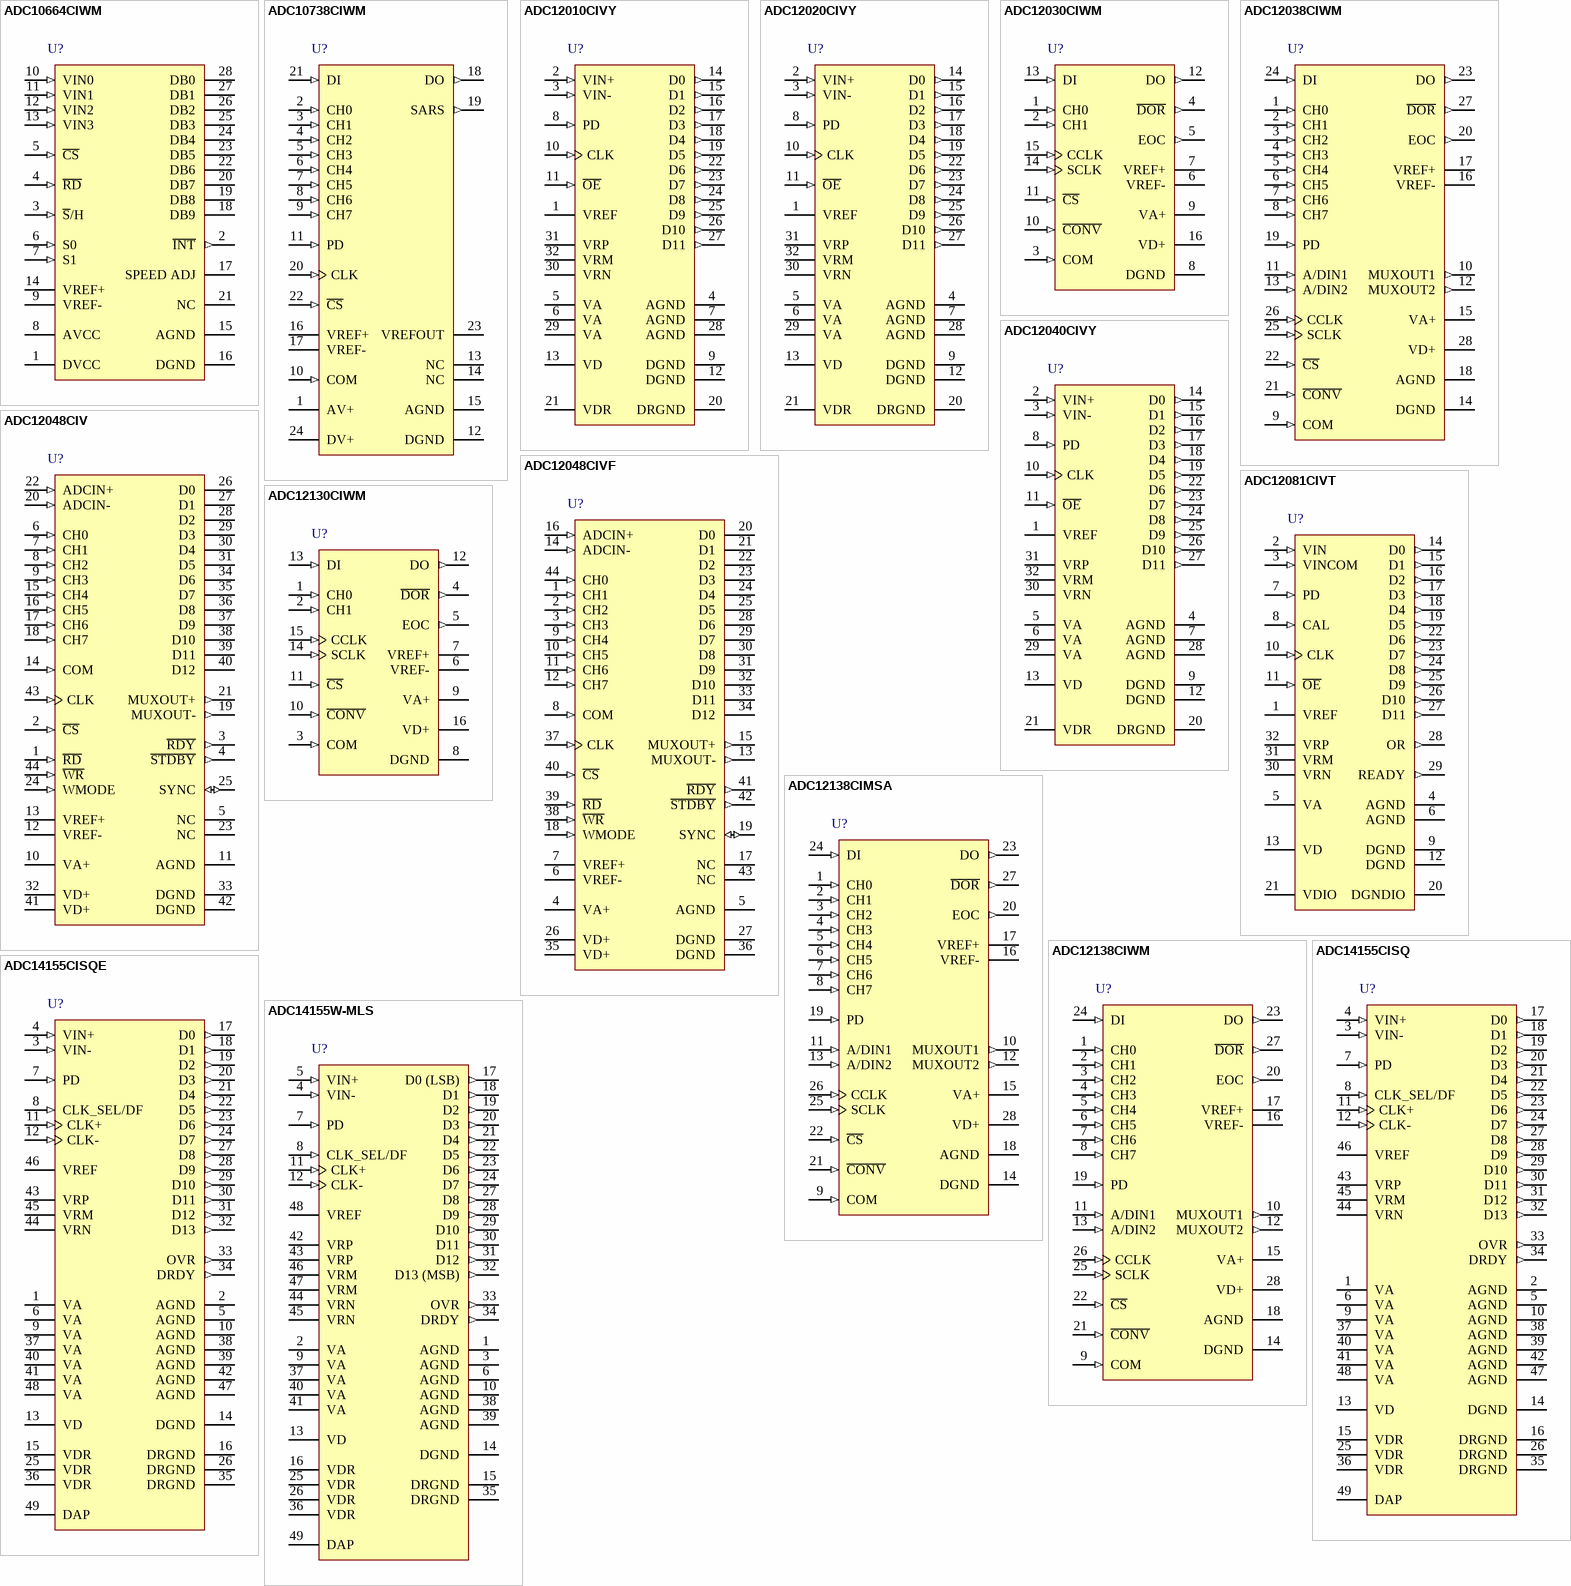
[diagram p13: symbols ADC10664CIWM to ADC14155W-MLS]

## ADC10664CIWM
designator U?
10-Bit 360 ns A/D Converter with Input Multiplexer and Sample/Hold; PartNumber: ADC10664CIWM; Manufacturer: National Semiconductor; CompType: ADC IC; PackageTopMarking: NSUZXYTT*ADC10664*CIWM; PowerWise: N; Published: 4-Dec-2008; DatasheetVersion: Sep-1992; PackageVersion: revB, Nov-1997; PackageReference: M28B; Publisher: Altium Limited; PackageDescription: Molded Package, S.O., .300in Wide, 28 Lead; RoHS: O; PinCount: 28; DigiKeyPartNumber: ADC10664CIWM-ND; ComponentLink1Description: ADC10664 Datasheet; ComponentLink1URL: http://www.national.com/ds/AD/ADC10664.pdf; ComponentLink2Description: ADC10664 Web Page; ComponentLink2URL: http://www.national.com/pf/AD/ADC10664.html; ComponentLink3Description: M28B Package Page; ComponentLink3URL: http://www.national.com/packaging/folders/m28b.html
footprint M28B_N (SOIC, 28-Leads, Body 17.9x7.5mm, Pitch 1.27mm, IPC Medium Density)
footprint M28B_L (SOIC, 28-Leads, Body 17.9x7.5mm, Pitch 1.27mm, IPC High Density)
footprint M28B_M (SOIC, 28-Leads, Body 17.9x7.5mm, Pitch 1.27mm, IPC Low Density)
pins: 1 DVCC (power), 2 ~{INT} (out), 3 ~{S}/H (in), 4 ~{RD} (in), 5 ~{CS} (in), 6 S0 (in), 7 S1 (in), 8 AVCC (power), 9 VREF- (power), 10 VIN0 (in), 11 VIN1 (in), 12 VIN2 (in), 13 VIN3 (in), 14 VREF+ (power), 15 AGND (power), 16 DGND (power), 17 SPEED ADJ, 18 DB9 (hiz), 19 DB8 (hiz), 20 DB7 (hiz), 21 NC, 22 DB6 (hiz), 23 DB5 (hiz), 24 DB4 (hiz), 25 DB3 (hiz), 26 DB2 (hiz), 27 DB1 (hiz), 28 DB0 (hiz)

## ADC10738CIWM
designator U?
10-Bit Plus Sign Serial I/O A/D Converters with Mux, Sample/Hold and Reference; PartNumber: ADC10738CIWM; Manufacturer: National Semiconductor; CompType: ADC IC; PackageTopMarking: NSUZXYTT*ADC10738*CIWM; PowerWise: N; Published: 4-Dec-2008; DatasheetVersion: Mar-1993; PackageVersion: revF, Apr-1990; PackageReference: M24B; Publisher: Altium Limited; PackageDescription: Molded Package, S.O., .300in Wide, 24 Lead; RoHS: Y; PinCount: 24; DigiKeyPartNumber: ADC10738CIWM-ND; ComponentLink1Description: ADC10738 Datasheet; ComponentLink1URL: http://www.national.com/ds/AD/ADC10738.pdf; ComponentLink2Description: ADC10738 Web Page; ComponentLink2URL: http://www.national.com/pf/AD/ADC10738.html; ComponentLink3Description: M24B Package Page; ComponentLink3URL: http://www.national.com/packaging/folders/m24b.html
footprint M24B_N (SOIC, 24-Leads, Body 15.4x7.5mm, Pitch 1.27mm, IPC Medium Density)
footprint M24B_L (SOIC, 24-Leads, Body 15.4x7.5mm, Pitch 1.27mm, IPC High Density)
footprint M24B_M (SOIC, 24-Leads, Body 15.4x7.5mm, Pitch 1.27mm, IPC Low Density)
pins: 1 AV+ (power), 2 CH0 (in), 3 CH1 (in), 4 CH2 (in), 5 CH3 (in), 6 CH4 (in), 7 CH5 (in), 8 CH6 (in), 9 CH7 (in), 10 COM (in), 11 PD (in), 12 DGND (power), 13 NC, 14 NC, 15 AGND (power), 16 VREF+ (power), 17 VREF- (power), 18 DO (out), 19 SARS (out), 20 CLK (in), 21 DI (in), 22 ~{CS} (in), 23 VREFOUT (power), 24 DV+ (power)

## ADC12010CIVY
designator U?
12-Bit, 10 MSPS, 160 mW A/D Converter with Internal Sample-and-Hold; PartNumber: ADC12010CIVY; Manufacturer: National Semiconductor; CompType: ADC IC; PackageTopMarking: NSUZXYTT*ADC12010*CIVY; PowerWise: N; Published: 4-Dec-2008; DatasheetVersion: Apr-2003; PackageVersion: revE, Dec-1999; PackageReference: VBE32A; Publisher: Altium Limited; PackageDescription: LQFP, JEDEC, Metric, 7 x 7 x 1.4mm, 32 Lead; RoHS: Y; PinCount: 32; DigiKeyPartNumber: ADC12010CIVY-ND; ComponentLink1Description: ADC12010 Datasheet; ComponentLink1URL: http://www.national.com/ds/AD/ADC12010.pdf; ComponentLink2Description: ADC12010 Web Page; ComponentLink2URL: http://www.national.com/pf/AD/ADC12010.html; ComponentLink3Description: VBE32A Package Page; ComponentLink3URL: http://www.national.com/packaging/folders/vbe32a.html
footprint VBE32A_N (Thin QFP, 32-Leads, Body 7x7mm, Pitch 0.8mm, IPC Medium Density)
footprint VBE32A_L (Thin QFP, 32-Leads, Body 7x7mm, Pitch 0.8mm, IPC High Density)
footprint VBE32A_M (Thin QFP, 32-Leads, Body 7x7mm, Pitch 0.8mm, IPC Low Density)
pins: 1 VREF (power), 2 VIN+ (in), 3 VIN- (in), 4 AGND (power), 5 VA (power), 6 VA (power), 7 AGND (power), 8 PD (in), 9 DGND (power), 10 CLK (in), 11 ~{OE} (in), 12 DGND (power), 13 VD (power), 14 D0 (out), 15 D1 (out), 16 D2 (out), 17 D3 (out), 18 D4 (out), 19 D5 (out), 20 DRGND (power), 21 VDR (power), 22 D6 (out), 23 D7 (out), 24 D8 (out), 25 D9 (out), 26 D10 (out), 27 D11 (out), 28 AGND (power), 29 VA (power), 30 VRN, 31 VRP, 32 VRM

## ADC12020CIVY
designator U?
12-Bit, 20 MSPS, 185mW A/D Converter with Internal Sample-and-Hold; PartNumber: ADC12020CIVY; Manufacturer: National Semiconductor; CompType: ADC IC; PackageTopMarking: NSUZXYTT*ADC12020*CIVY; PowerWise: N; Published: 4-Dec-2008; DatasheetVersion: Apr-2003; PackageVersion: revE, Dec-1999; PackageReference: VBE32A; Publisher: Altium Limited; PackageDescription: LQFP, JEDEC, Metric, 7 x 7 x 1.4mm, 32 Lead; RoHS: Y; PinCount: 32; DigiKeyPartNumber: ADC12020CIVY-ND; ComponentLink1Description: ADC12020 Datasheet; ComponentLink1URL: http://www.national.com/ds/AD/ADC12020.pdf; ComponentLink2Description: ADC12020 Web Page; ComponentLink2URL: http://www.national.com/pf/AD/ADC12020.html; ComponentLink3Description: VBE32A Package Page; ComponentLink3URL: http://www.national.com/packaging/folders/vbe32a.html
footprint VBE32A_N (Thin QFP, 32-Leads, Body 7x7mm, Pitch 0.8mm, IPC Medium Density)
footprint VBE32A_L (Thin QFP, 32-Leads, Body 7x7mm, Pitch 0.8mm, IPC High Density)
footprint VBE32A_M (Thin QFP, 32-Leads, Body 7x7mm, Pitch 0.8mm, IPC Low Density)
pins: 1 VREF (power), 2 VIN+ (in), 3 VIN- (in), 4 AGND (power), 5 VA (power), 6 VA (power), 7 AGND (power), 8 PD (in), 9 DGND (power), 10 CLK (in), 11 ~{OE} (in), 12 DGND (power), 13 VD (power), 14 D0 (out), 15 D1 (out), 16 D2 (out), 17 D3 (out), 18 D4 (out), 19 D5 (out), 20 DRGND (power), 21 VDR (power), 22 D6 (out), 23 D7 (out), 24 D8 (out), 25 D9 (out), 26 D10 (out), 27 D11 (out), 28 AGND (power), 29 VA (power), 30 VRN, 31 VRP, 32 VRM

## ADC12030CIWM
designator U?
Self-Calibrating 12-Bit Plus Sign Serial I/O A/D Converters with MUX and Sample/Hold; PartNumber: ADC12030CIWM; Manufacturer: National Semiconductor; CompType: ADC IC; PackageTopMarking: NSUZXYTT*ADC12030*CIWM; PowerWise: N; Published: 4-Dec-2008; DatasheetVersion: Apr-1993; PackageVersion: revF, Apr-1990; PackageReference: M16B; Publisher: Altium Limited; PackageDescription: Molded Package, S.O., .300in Wide, 16 Lead; RoHS: Y; PinCount: 16; DigiKeyPartNumber: ADC12030CIWM-ND; Code_JEDEC: MS-013-AA; Code_IPC: SOIC127P1030-16; ComponentLink1Description: ADC12030 Datasheet; ComponentLink1URL: http://www.national.com/ds/AD/ADC12030.pdf; ComponentLink2Description: ADC12030 Web Page; ComponentLink2URL: http://www.national.com/pf/AD/ADC12030.html; ComponentLink3Description: M16B Package Page; ComponentLink3URL: http://www.national.com/packaging/folders/m16b.html
footprint M16B_N (SOIC, 16-Leads, Body 10.3x7.5mm, Pitch 1.27mm, IPC Medium Density)
footprint M16B_L (SOIC, 16-Leads, Body 10.3x7.5mm, Pitch 1.27mm, IPC High Density)
footprint M16B_M (SOIC, 16-Leads, Body 10.3x7.5mm, Pitch 1.27mm, IPC Low Density)
pins: 1 CH0 (in), 2 CH1 (in), 3 COM (in), 4 ~{DOR} (out), 5 EOC (out), 6 VREF- (power), 7 VREF+ (power), 8 DGND (power), 9 VA+ (power), 10 ~{CONV} (in), 11 ~{CS} (in), 12 DO (out), 13 DI (in), 14 SCLK (in), 15 CCLK (in), 16 VD+ (power)

## ADC12038CIWM
designator U?
Self-Calibrating 12-Bit Plus Sign Serial I/O A/D Converters with MUX and Sample/Hold; PartNumber: ADC12038CIWM; Manufacturer: National Semiconductor; CompType: ADC IC; PackageTopMarking: NSUZXYTT*ADC12038*CIWM; PowerWise: N; Published: 4-Dec-2008; DatasheetVersion: Apr-1993; PackageVersion: revB, Nov-1997; PackageReference: M28B; Publisher: Altium Limited; PackageDescription: Molded Package, S.O., .300in Wide, 28 Lead; RoHS: O; PinCount: 28; DigiKeyPartNumber: ADC12038CIWM-ND; ComponentLink1Description: ADC12038 Datasheet; ComponentLink1URL: http://www.national.com/ds/AD/ADC12038.pdf; ComponentLink2Description: ADC12038 Web Page; ComponentLink2URL: http://www.national.com/pf/AD/ADC12038.html; ComponentLink3Description: M28B Package Page; ComponentLink3URL: http://www.national.com/packaging/folders/m28b.html
footprint M28B_N (SOIC, 28-Leads, Body 17.9x7.5mm, Pitch 1.27mm, IPC Medium Density)
footprint M28B_L (SOIC, 28-Leads, Body 17.9x7.5mm, Pitch 1.27mm, IPC High Density)
footprint M28B_M (SOIC, 28-Leads, Body 17.9x7.5mm, Pitch 1.27mm, IPC Low Density)
pins: 1 CH0 (in), 2 CH1 (in), 3 CH2 (in), 4 CH3 (in), 5 CH4 (in), 6 CH5 (in), 7 CH6 (in), 8 CH7 (in), 9 COM (in), 10 MUXOUT1 (out), 11 A/DIN1 (in), 12 MUXOUT2 (out), 13 A/DIN2 (in), 14 DGND (power), 15 VA+ (power), 16 VREF- (power), 17 VREF+ (power), 18 AGND (power), 19 PD (in), 20 EOC (out), 21 ~{CONV} (in), 22 ~{CS} (in), 23 DO (out), 24 DI (in), 25 SCLK (in), 26 CCLK (in), 27 ~{DOR} (out), 28 VD+ (power)

## ADC12040CIVY
designator U?
12-Bit, 40 MSPS, 340mW A/D Converter with Internal Sample-and-Hold; PartNumber: ADC12040CIVY; Manufacturer: National Semiconductor; CompType: ADC IC; PackageTopMarking: NSUZXYTT*ADC12040*CIVY; PowerWise: N; Published: 4-Dec-2008; DatasheetVersion: Feb-2001; PackageVersion: revE, Dec-1999; PackageReference: VBE32A; Publisher: Altium Limited; PackageDescription: LQFP, JEDEC, Metric, 7 x 7 x 1.4mm, 32 Lead; RoHS: O; PinCount: 32; DigiKeyPartNumber: ADC12040CIVY-ND; ComponentLink1Description: ADC12040 Datasheet; ComponentLink1URL: http://www.national.com/ds/AD/ADC12040.pdf; ComponentLink2Description: ADC12040 Web Page; ComponentLink2URL: http://www.national.com/pf/AD/ADC12040.html; ComponentLink3Description: VBE32A Package Page; ComponentLink3URL: http://www.national.com/packaging/folders/vbe32a.html
footprint VBE32A_N (Thin QFP, 32-Leads, Body 7x7mm, Pitch 0.8mm, IPC Medium Density)
footprint VBE32A_L (Thin QFP, 32-Leads, Body 7x7mm, Pitch 0.8mm, IPC High Density)
footprint VBE32A_M (Thin QFP, 32-Leads, Body 7x7mm, Pitch 0.8mm, IPC Low Density)
pins: 1 VREF (power), 2 VIN+ (in), 3 VIN- (in), 4 AGND (power), 5 VA (power), 6 VA (power), 7 AGND (power), 8 PD (in), 9 DGND (power), 10 CLK (in), 11 ~{OE} (in), 12 DGND (power), 13 VD (power), 14 D0 (out), 15 D1 (out), 16 D2 (out), 17 D3 (out), 18 D4 (out), 19 D5 (out), 20 DRGND (power), 21 VDR (power), 22 D6 (out), 23 D7 (out), 24 D8 (out), 25 D9 (out), 26 D10 (out), 27 D11 (out), 28 AGND (power), 29 VA (power), 30 VRN, 31 VRP, 32 VRM

## ADC12048CIV
designator U?
12-Bit Plus Sign 216 kHz 8 Channel Sampling Analog to Digital Converter; PartNumber: ADC12048CIV; Manufacturer: National Semiconductor; CompType: ADC IC; PackageTopMarking: NSUZXYYTTE#*ADC12048CIV; PowerWise: N; Published: 4-Dec-2008; DatasheetVersion: Feb-1999; PackageVersion: revK, Dec-1993; PackageReference: V44A; Publisher: Altium Limited; PackageDescription: Plastic Chip Carrier, Sq, .050in Pitch, 44 Lead; RoHS: O; PinCount: 44; DigiKeyPartNumber: ADC12048CIV-ND; Code_IPC: PLCC-44; ComponentLink1Description: ADC12048 Datasheet; ComponentLink1URL: http://www.national.com/ds/AD/ADC12048.pdf; ComponentLink2Description: ADC12048 Web Page; ComponentLink2URL: http://www.national.com/pf/AD/ADC12048.html; ComponentLink3Description: V44A Package Page; ComponentLink3URL: http://www.national.com/packaging/folders/v44a.html
footprint V44A_N (Leaded Chip Carrier, 44-Leads, Body 16.6x16.6mm, Pitch 1.27mm, IPC Medium Density)
footprint V44A_L (Leaded Chip Carrier, 44-Leads, Body 16.6x16.6mm, Pitch 1.27mm, IPC High Density)
footprint V44A_M (Leaded Chip Carrier, 44-Leads, Body 16.6x16.6mm, Pitch 1.27mm, IPC Low Density)
pins: 1 ~{RD} (in), 2 ~{CS} (in), 3 ~{RDY} (out), 4 ~{STDBY} (out), 5 NC, 6 CH0 (in), 7 CH1 (in), 8 CH2 (in), 9 CH3 (in), 10 VA+ (power), 11 AGND (power), 12 VREF- (power), 13 VREF+ (power), 14 COM (in), 15 CH4 (in), 16 CH5 (in), 17 CH6 (in), 18 CH7 (in), 19 MUXOUT- (out), 20 ADCIN- (in), 21 MUXOUT+ (out), 22 ADCIN+ (in), 23 NC, 24 WMODE (in), 25 SYNC (io), 26 D0 (hiz), 27 D1 (hiz), 28 D2 (hiz), 29 D3 (hiz), 30 D4 (hiz), 31 D5 (hiz), 32 VD+ (power), 33 DGND (power), 34 D6 (hiz), 35 D7 (hiz), 36 D8 (hiz), 37 D9 (hiz), 38 D10 (hiz), 39 D11 (hiz), 40 D12 (hiz), 41 VD+ (power), 42 DGND (power), 43 CLK (in), 44 ~{WR} (in)

## ADC12048CIVF
designator U?
12-Bit Plus Sign 216 kHz 8 Channel Sampling Analog to Digital Converter; PartNumber: ADC12048CIVF; Manufacturer: National Semiconductor; CompType: ADC IC; PackageTopMarking: NSUZXYYTT*ADC12048*CIVF*DIE RUN# =; PowerWise: N; Published: 4-Dec-2008; DatasheetVersion: Feb-1999; PackageVersion: revE, Feb-2003; PackageReference: VGZ44A; Publisher: Altium Limited; PackageDescription: PQFP, Jedec Metric, (S), 10 x 10 x 2.0mm Body, 44 Lead; RoHS: O; PinCount: 44; DigiKeyPartNumber: ADC12048CIVF-ND; Code_JEDEC: MO-108-AA-1; Code_IPC: QFP80P1320X1320-44; ComponentLink1Description: ADC12048 Datasheet; ComponentLink1URL: http://www.national.com/ds/AD/ADC12048.pdf; ComponentLink2Description: ADC12048 Web Page; ComponentLink2URL: http://www.national.com/pf/AD/ADC12048.html; ComponentLink3Description: VGZ44A Package Page; ComponentLink3URL: http://www.national.com/packaging/folders/vgz44a.html
footprint VGZ44A_N (QFP, 44-Leads, Body 10x10mm, Pitch 0.8mm, IPC Medium Density)
footprint VGZ44A_L (QFP, 44-Leads, Body 10x10mm, Pitch 0.8mm, IPC High Density)
footprint VGZ44A_M (QFP, 44-Leads, Body 10x10mm, Pitch 0.8mm, IPC Low Density)
pins: 1 CH1 (in), 2 CH2 (in), 3 CH3 (in), 4 VA+ (power), 5 AGND (power), 6 VREF- (power), 7 VREF+ (power), 8 COM (in), 9 CH4 (in), 10 CH5 (in), 11 CH6 (in), 12 CH7 (in), 13 MUXOUT- (out), 14 ADCIN- (in), 15 MUXOUT+ (out), 16 ADCIN+ (in), 17 NC, 18 WMODE (in), 19 SYNC (io), 20 D0 (hiz), 21 D1 (hiz), 22 D2 (hiz), 23 D3 (hiz), 24 D4 (hiz), 25 D5 (hiz), 26 VD+ (power), 27 DGND (power), 28 D6 (hiz), 29 D7 (hiz), 30 D8 (hiz), 31 D9 (hiz), 32 D10 (hiz), 33 D11 (hiz), 34 D12 (hiz), 35 VD+ (power), 36 DGND (power), 37 CLK (in), 38 ~{WR} (in), 39 ~{RD} (in), 40 ~{CS} (in), 41 ~{RDY} (out), 42 ~{STDBY} (out), 43 NC, 44 CH0 (in)

## ADC12081CIVT
designator U?
12-Bit, 5 MHz Self-Calibrating, Pipelined A/D Converter with Internal Sample &amp; Hold; PartNumber: ADC12081CIVT; Manufacturer: National Semiconductor; CompType: ADC IC; PackageTopMarking: NSUZXYTT*ADC12081*CIVT; PowerWise: N; Published: 4-Dec-2008; DatasheetVersion: Jan-2004; PackageVersion: revE, Dec-1999; PackageReference: VBE32A; Publisher: Altium Limited; PackageDescription: LQFP, JEDEC, Metric, 7 x 7 x 1.4mm, 32 Lead; RoHS: O; PinCount: 32; DigiKeyPartNumber: ADC12081CIVT-ND; ComponentLink1Description: ADC12081 Datasheet; ComponentLink1URL: http://www.national.com/ds/AD/ADC12081.pdf; ComponentLink2Description: ADC12081 Web Page; ComponentLink2URL: http://www.national.com/pf/AD/ADC12081.html; ComponentLink3Description: VBE32A Package Page; ComponentLink3URL: http://www.national.com/packaging/folders/vbe32a.html
footprint VBE32A_N (Thin QFP, 32-Leads, Body 7x7mm, Pitch 0.8mm, IPC Medium Density)
footprint VBE32A_L (Thin QFP, 32-Leads, Body 7x7mm, Pitch 0.8mm, IPC High Density)
footprint VBE32A_M (Thin QFP, 32-Leads, Body 7x7mm, Pitch 0.8mm, IPC Low Density)
pins: 1 VREF (power), 2 VIN (in), 3 VINCOM (in), 4 AGND (power), 5 VA (power), 6 AGND (power), 7 PD (in), 8 CAL (in), 9 DGND (power), 10 CLK (in), 11 ~{OE} (in), 12 DGND (power), 13 VD (power), 14 D0 (out), 15 D1 (out), 16 D2 (out), 17 D3 (out), 18 D4 (out), 19 D5 (out), 20 DGNDIO (power), 21 VDIO (power), 22 D6 (out), 23 D7 (out), 24 D8 (out), 25 D9 (out), 26 D10 (out), 27 D11 (out), 28 OR (out), 29 READY (out), 30 VRN, 31 VRM, 32 VRP